# Altium footprint library Indicator.PcbLib: 51 footprints (part 2 of 4)
Each footprint in its own frame and in the unit in brackets; x right, y up, seen from the top. Pads: shape width x height; smd on the part's side, far side on the other; paste and mask are expansions set on the pad; w line width, h text height; cw(c..) or ccw(c..) is an arc to the next point about the centre after c.
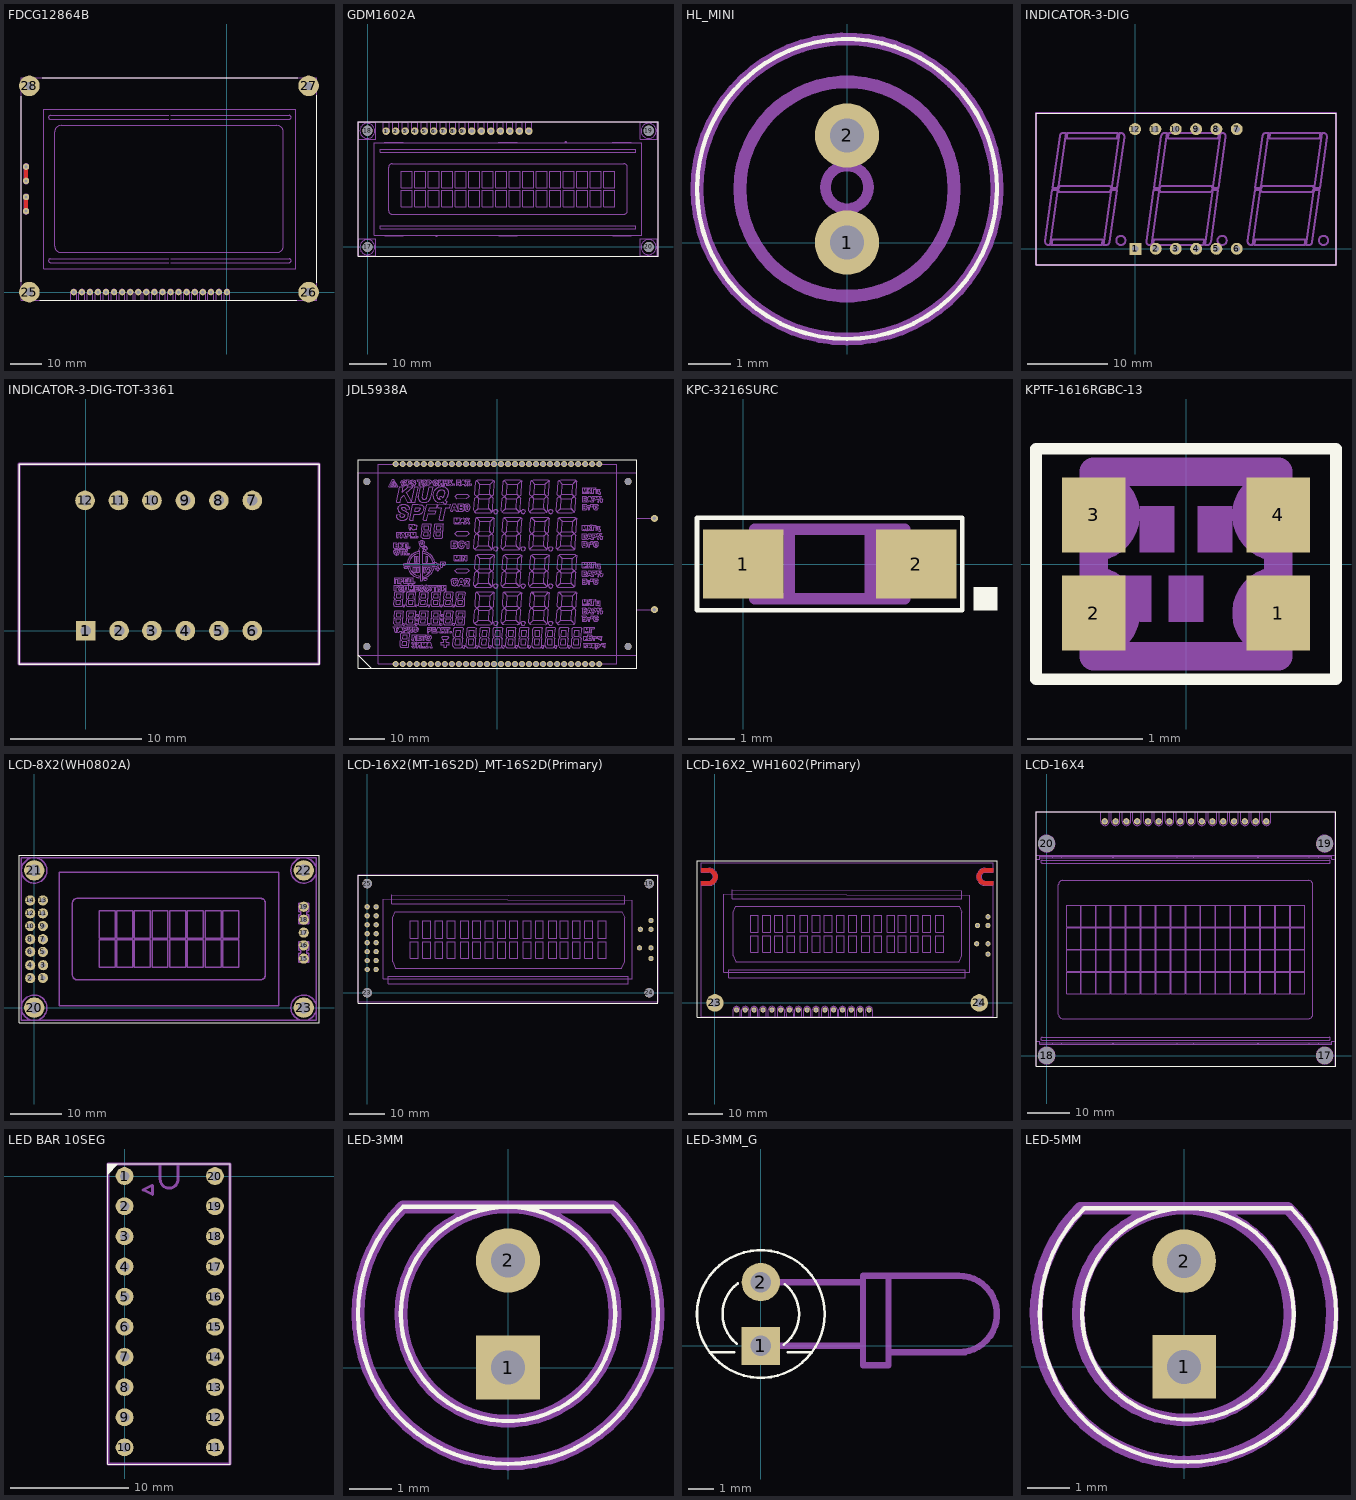
[diagram p1: the footprints below, top view; thin cyan lines are the x and y axes]

## FDCG12864B [mm]
pads (28):
  round 2 hole 1: 1(0,0) 2(-2.55,0) 3(-5.05,0) 4(-7.6,0) 5(-10.15,0) 6(-12.7,0) 7(-15.25,0) 8(-17.75,0) 9(-20.3,0) 10(-22.85,0) 11(-25.4,0) 12(-27.95,0) 13(-30.45,0) 14(-33,0) 15(-35.55,0) 16(-38.1,0) 17(-40.65,0) 18(-43.15,0) 19(-45.7,0) 20(-48.25,0) 21(-63.28,39.52) 22(-63.28,35.07) 23(-63.28,29.97) 24(-63.28,25.52)
  round 6.5 hole 2.5: 25(-62.25,0) 26(25.75,0) 27(25.75,65) 28(-62.25,65)
Top Layer:
  lines w1.25: -63.28,25.52 -63.28,30.02 ; -63.28,35.07 -63.28,39.52
Top Overlay:
  lines w0.1: -64.75,3.25 -64.75,61.75 ; -59,-2.5 22,-2.5 ; -58.25,67.5 22.25,67.5 ; 28.25,3 28.25,62
Mechanical 1:
  circle w0.25: c25.749,65.003 r2.5
  circle w0.25: c-62.251,65.003 r2.5
  circle w0.25: c25.749,0.003 r2.5
  circle w0.25: c-63.281,25.523 r0.5
  circle w0.25: c-62.251,0.003 r2.5
  circle w0.25: c-2.531,0.003 r0.5
  circle w0.25: c-10.151,0.003 r0.5
  circle w0.25: c-17.771,0.003 r0.5
  circle w0.25: c-25.391,0.003 r0.5
  circle w0.25: c-33.011,0.003 r0.5
  circle w0.25: c-40.631,0.003 r0.5
  circle w0.25: c-63.281,39.523 r0.5
  circle w0.25: c-63.281,35.063 r0.5
  circle w0.25: c-63.281,29.983 r0.5
  circle w0.25: c-48.251,0.003 r0.5
  circle w0.25: c0.009,0.003 r0.5
  circle w0.25: c-5.071,0.003 r0.5
  circle w0.25: c-7.611,0.003 r0.5
  circle w0.25: c-12.691,0.003 r0.5
  circle w0.25: c-15.231,0.003 r0.5
  circle w0.25: c-20.311,0.003 r0.5
  circle w0.25: c-22.851,0.003 r0.5
  circle w0.25: c-27.931,0.003 r0.5
  circle w0.25: c-30.471,0.003 r0.5
  circle w0.25: c-35.551,0.003 r0.5
  circle w0.25: c-38.091,0.003 r0.5
  circle w0.25: c-43.171,0.003 r0.5
  circle w0.25: c-45.711,0.003 r0.5
  lines w0.25: -63.797,29.223 cw(c-63.281,29.983) -62.766,29.222 -62.766,26.283 ; -63.797,38.763 cw(c-63.281,39.523) -62.766,38.762 -62.766,35.823 ; -63.796,29.222 -63.796,26.283 ccw(c-63.281,25.523) -62.765,26.282 ; -63.796,38.762 -63.796,35.823 ccw(c-63.281,35.063) -62.765,35.822 ; -49.151,-2.497 -49.151,0.003 cw(c-48.251,0.003) -47.351,0.003 -47.351,-2.497 ; -46.611,-2.497 -46.611,0.003 cw(c-45.711,0.003) -44.811,0.003 -44.811,-2.497 ; -44.071,-2.497 -44.071,0.003 cw(c-43.171,0.003) -42.271,0.003 -42.271,-2.497 ; -41.531,-2.497 -41.531,0.003 cw(c-40.631,0.003) -39.731,0.003 -39.731,-2.497 ; -38.991,-2.497 -38.991,0.003 cw(c-38.091,0.003) -37.191,0.003 -37.191,-2.497 ; -36.451,-2.497 -36.451,0.003 cw(c-35.551,0.003) -34.651,0.003 -34.651,-2.497 ; -33.911,-2.497 -33.911,0.003 cw(c-33.011,0.003) -32.111,0.003 -32.111,-2.497 ; -31.371,-2.497 -31.371,0.003 cw(c-30.471,0.003) -29.571,0.003 -29.571,-2.497 ; -28.831,-2.497 -28.831,0.003 cw(c-27.931,0.003) -27.031,0.003 -27.031,-2.497 ; -26.291,-2.497 -26.291,0.003 cw(c-25.391,0.003) -24.491,0.003 -24.491,-2.497 ; -23.751,-2.497 -23.751,0.003 cw(c-22.851,0.003) -21.951,0.003 -21.951,-2.497 ; -21.211,-2.497 -21.211,0.003 cw(c-20.311,0.003) -19.411,0.003 -19.411,-2.497 ; -18.671,-2.497 -18.671,0.003 cw(c-17.771,0.003) -16.871,0.003 -16.871,-2.497 ; -18.251,9.325 -55.628,9.325 cw(c-55.628,9.918) -55.628,10.511 -18.251,10.511 ; -18.251,54.495 -55.628,54.495 cw(c-55.628,55.088) -55.628,55.68 -18.251,55.68 ; -17.751,9.325 19.626,9.325 ccw(c19.626,9.918) 19.626,10.511 -17.751,10.511 ; -17.751,54.495 19.626,54.495 ccw(c19.626,55.088) 19.626,55.68 -17.751,55.68 ; -16.131,-2.497 -16.131,0.003 cw(c-15.231,0.003) -14.331,0.003 -14.331,-2.497 ; -13.591,-2.497 -13.591,0.003 cw(c-12.691,0.003) -11.791,0.003 -11.791,-2.497 ; -11.051,-2.497 -11.051,0.003 cw(c-10.151,0.003) -9.251,0.003 -9.251,-2.497 ; -8.511,-2.497 -8.511,0.003 cw(c-7.611,0.003) -6.711,0.003 -6.711,-2.497 ; -5.971,-2.497 -5.971,0.003 cw(c-5.071,0.003) -4.171,0.003 -4.171,-2.497 ; -3.431,-2.497 -3.431,0.003 cw(c-2.531,0.003) -1.631,0.003 -1.631,-2.497 ; -0.891,-2.497 -0.891,0.003 cw(c0.009,0.003) 0.909,0.003 0.909,-2.497 ; -64.751,-2.497 28.249,-2.497 28.249,67.503 -64.751,67.503 -64.751,-2.497 ; -57.751,7.403 21.749,7.403 21.749,32.503 21.749,57.603 -57.751,57.603 -57.751,32.503 -57.751,7.403 ; -54.251,14.503 ccw(c-52.251,14.503) -52.251,12.503 -18.251,12.503 15.749,12.503 ccw(c15.749,14.503) 17.749,14.503 17.749,32.503 17.749,50.503 ccw(c15.749,50.503) 15.749,52.503 -18.251,52.503 -52.251,52.503 ccw(c-52.251,50.503) -54.251,50.503 -54.251,32.503 -54.251,14.503

## GDM1602A [mm]
pads (20):
  round 2 hole 1.1: 1(4.95,30.9) 2(7.5,30.9) 3(10.05,30.9) 4(12.6,30.9) 5(15.15,30.9) 6(17.65,30.9) 7(20.2,30.9) 8(22.75,30.9) 9(25.3,30.9) 10(27.8,30.9) 11(30.35,30.9) 12(32.9,30.9) 13(35.45,30.9) 14(37.95,30.9) 15(40.5,30.9) 16(43,30.9)
  round 2.7 hole 2.7 unplated: 17(0,0) 18(0,31) 19(75,31) 20(75,0)
Top Overlay:
  lines w0.1: -2.54,-2.54 77.46,-2.54 77.46,33.46 -2.54,33.46 -2.54,-2.54
Mechanical 1:
  drawing of 276 lines, arcs and shapes, not listed

## HL_MINI [mm]
pads (2):
  round 1.5 hole 0.8: 1(0,0) 2(0,2.5)
Top Overlay:
  lines w0.1: 2.453,3.746 ccw(c0,1.25) -3.5,1.25 ccw(c0,1.25) 3.5,1.25 ccw(c0,1.25) 2.475,3.725
Mechanical 1:
  lines w0.25: -0.5,1.29 cw(c0,1.29) 0.5,1.29 cw(c0,1.29) -0.5,1.29
  lines w0.3: 2.453,3.746 ccw(c0,1.25) -3.5,1.25 ccw(c0,1.25) 3.5,1.25 ccw(c0,1.25) 2.475,3.725 ; -2.5,1.25 cw(c0,1.25) 2.5,1.25 cw(c0,1.25) -2.5,1.25

## INDICATOR-3-DIG [mm]
pads (12):
  rect 1.5x1.5 hole 0.8: 1(0,0)
  round 1.5 hole 0.8: 2(2.55,0) 3(5.05,0) 4(7.6,0) 5(10.15,0) 6(12.7,0) 7(12.7,15) 8(10.15,15) 9(7.6,15) 10(5.05,15) 11(2.5,15) 12(-0.05,15)
Top Overlay:
  lines w0.1: -12.462,-2.008 25.138,-2.008 25.138,16.992 -12.462,16.992 -12.462,-2.008
Mechanical 1:
  circle w0.25: c23.574,1.051 r0.579
  circle w0.25: c10.874,1.051 r0.579
  circle w0.25: c-1.826,1.051 r0.579
  lines w0.25: -12.462,-2.008 25.138,-2.008 25.138,16.992 -12.462,16.992 -12.462,-2.008 ; -11.328,0.974 ccw(c-10.882,0.911) -10.882,0.461 -10.7,0.461 -9.761,7.142 -9.861,7.376 -10.428,7.376 -11.328,0.974 ; -10.5,0.461 -4.2,0.461 -4.101,1.161 -10.401,1.161 -10.5,0.461 ; -10.395,7.609 -9.478,14.136 cw(c-9.032,14.073) -9.032,14.523 -8.724,14.523 -9.662,7.842 -9.829,7.609 -10.395,7.609 ; -9.712,7.492 -9.462,7.842 -3.162,7.842 -3.012,7.492 -3.261,7.142 -9.561,7.142 -9.712,7.492 ; -8.622,13.823 -2.322,13.823 -2.224,14.523 -8.524,14.523 -8.622,13.823 ; -4,0.461 -3.061,7.142 -2.895,7.376 -2.328,7.376 -3.245,0.849 cw(c-3.691,0.911) -3.691,0.461 -4,0.461 ; -2.962,7.842 -2.024,14.523 -1.841,14.523 cw(c-1.841,14.073) -1.396,14.011 -2.295,7.609 -2.862,7.609 -2.962,7.842 ; 1.372,0.974 ccw(c1.818,0.911) 1.818,0.461 2,0.461 2.939,7.142 2.839,7.376 2.272,7.376 1.372,0.974 ; 2.2,0.461 8.5,0.461 8.599,1.161 2.299,1.161 2.2,0.461 ; 2.305,7.609 3.222,14.136 cw(c3.668,14.073) 3.668,14.523 3.976,14.523 3.038,7.842 2.871,7.609 2.305,7.609 ; 2.988,7.492 3.238,7.842 9.538,7.842 9.688,7.492 9.439,7.142 3.139,7.142 2.988,7.492 ; 4.078,13.823 10.378,13.823 10.476,14.523 4.176,14.523 4.078,13.823 ; 8.7,0.461 9.639,7.142 9.805,7.376 10.372,7.376 9.455,0.849 cw(c9.009,0.911) 9.009,0.461 8.7,0.461 ; 9.738,7.842 10.676,14.523 10.859,14.523 cw(c10.859,14.073) 11.304,14.011 10.405,7.609 9.838,7.609 9.738,7.842 ; 14.072,0.974 ccw(c14.518,0.911) 14.518,0.461 14.7,0.461 15.639,7.142 15.539,7.376 14.972,7.376 14.072,0.974 ; 14.9,0.461 21.2,0.461 21.299,1.161 14.999,1.161 14.9,0.461 ; 15.005,7.609 15.922,14.136 cw(c16.368,14.073) 16.368,14.523 16.676,14.523 15.738,7.842 15.571,7.609 15.005,7.609 ; 15.688,7.492 15.938,7.842 22.238,7.842 22.388,7.492 22.139,7.142 15.839,7.142 15.688,7.492 ; 16.778,13.823 23.078,13.823 23.176,14.523 16.876,14.523 16.778,13.823 ; 21.4,0.461 22.339,7.142 22.505,7.376 23.072,7.376 22.155,0.849 cw(c21.709,0.911) 21.709,0.461 21.4,0.461 ; 22.438,7.842 23.376,14.523 23.559,14.523 cw(c23.559,14.073) 24.004,14.011 23.105,7.609 22.538,7.609 22.438,7.842

## INDICATOR-3-DIG-TOT-3361 [mm]
pads (12):
  rect 1.5x1.5 hole 0.8: 1(0,0)
  round 1.5 hole 0.8: 2(2.55,0) 3(5.05,0) 4(7.6,0) 5(10.15,0) 6(12.7,0) 7(12.7,9.92) 8(10.15,9.92) 9(7.6,9.92) 10(5.05,9.92) 11(2.5,9.92) 12(-0.05,9.92)
Top Overlay:
  lines w0.1: -5.08,-2.54 17.78,-2.54 17.78,12.7 -5.08,12.7 -5.08,-2.54
Mechanical 1:
  lines w0.25: -5.08,-2.54 17.78,-2.54 17.78,12.7 -5.08,12.7 -5.08,-2.54

## JDL5938A [mm]
pads (66):
  round 1.75 hole 1.1: 1(-29,-28.5) 2(-27,-28.5) 3(-25,-28.5) 4(-23,-28.5) 5(-21,-28.5) 6(-19,-28.5) 7(-17,-28.5) 8(-15,-28.5) 9(-13,-28.5) 10(-11,-28.5) 11(-9,-28.5) 12(-7,-28.5) 13(-5,-28.5) 14(-3,-28.5) 15(-1,-28.5) 16(1,-28.5) 17(3,-28.5) 18(5,-28.5) 19(7,-28.5) 20(9,-28.5) 21(11,-28.5) 22(13,-28.5) 23(15,-28.5) 24(17,-28.5) 25(19,-28.5) 26(21,-28.5) 27(23,-28.5) 28(25,-28.5) 29(27,-28.5) 30(29,-28.5) 31(29,28.5) 32(27,28.5) 33(25,28.5) 34(23,28.5) 35(21,28.5) 36(19,28.5) 37(17,28.5) 38(15,28.5) 39(13,28.5) 40(11,28.5) 41(9,28.5) 42(7,28.5) 43(5,28.5) 44(3,28.5) 45(1,28.5) 46(-1,28.5) 47(-3,28.5) 48(-5,28.5) 49(-7,28.5) 50(-9,28.5) 51(-11,28.5) 52(-13,28.5) 53(-15,28.5) 54(-17,28.5) 55(-19,28.5) 56(-21,28.5) 57(-23,28.5) 58(-25,28.5) 59(-27,28.5) 60(-29,28.5)
  round 2 hole 1: 61(44.75,-13) 62(44.75,13)
  round 2 hole 2 unplated: 63(-37.25,-23.5) 64(37.25,-23.5) 65(37.25,23.5) 66(-37.25,23.5)
Top Overlay:
  lines w0.1: -39.75,-26 -36,-29.75 ; -39.75,-29.75 39.75,-29.75 39.75,29.75 -39.75,29.75 -39.75,-29.75
Mechanical 1:
  drawing of 24918 lines, arcs and shapes, not listed
  text "A" at 44.5,14.75 h0.94
  text "K" at 44.25,-11.5 h0.94

## KPC-3216SURC [mm]
pads (2):
  rect 1.75x1.5 smd: 1(0,0) 2(3.75,0)
Top Overlay:
  region: 5,-1 5.5,-1 5.5,-0.5 5,-0.5
  lines w0.1: -1,-1 4.75,-1 4.75,1 -1,1 -1,-1
Mechanical 1:
  lines w0.25: 1,-0.75 1,0.75 ; 2.75,-0.75 2.75,0.75 ; 3,-0.75 3,0.75 ; 0.25,-0.75 3.5,-0.75 3.5,0.75 0.25,0.75 0.25,-0.75

## KPTF-1616RGBC-13 [mm]
pads (4):
  rect 0.55x0.65 smd: 1(0.8,-0.425) 2(-0.8,-0.425) 3(-0.8,0.425) 4(0.8,0.425)
Top Overlay:
  lines w0.1: -1.3,-1 1.3,-1 1.3,1 -1.3,1 -1.3,-1
Mechanical 1:
  region: -0.15,-0.1 -0.15,-0.5 0.15,-0.5 0.15,-0.1
  region: 0.1,0.5 0.1,0.1 0.4,0.1 0.4,0.5
  region: -0.4,0.5 -0.4,0.1 -0.1,0.1 -0.1,0.5
  region: -0.6,-0.3 -0.4,-0.5 -0.3,-0.5 -0.3,-0.1 -0.6,-0.1
  lines w0.25: -0.8,-0.7 ccw(c-0.8,-0.425) -0.8,-0.15 ; -0.8,0.15 ccw(c-0.8,0.425) -0.8,0.7 ; 0.8,-0.7 cw(c0.8,-0.425) 0.8,-0.15 ; 0.8,0.15 cw(c0.8,0.425) 0.8,0.7 ; -0.8,-0.8 0.8,-0.8 0.8,-0.55 cw(c0.8,-0.425) 0.8,-0.3 0.8,0.3 cw(c0.8,0.425) 0.8,0.55 0.8,0.8 -0.8,0.8 -0.8,0.55 cw(c-0.8,0.425) -0.8,0.3 -0.8,-0.3 cw(c-0.8,-0.425) -0.8,-0.55 -0.8,-0.8

## LCD-8X2(WH0802A) [mm]
pads (23):
  round 2 hole 1: 1(1.7,5.85) 2(-0.8,5.8) 3(1.75,8.35) 4(-0.8,8.35) 5(1.7,10.95) 6(-0.8,11) 7(1.7,13.45) 8(-0.8,13.45) 9(1.7,16.05) 10(-0.8,16.05) 11(1.7,18.55) 12(-0.8,18.55) 13(1.7,21.1) 14(-0.8,21.1) 15(53,9.65) 16(53,12.25) 17(53,14.75) 18(53,17.3) 19(53,19.85)
  round 4 hole 2.3: 20(0,0) 21(0,27) 22(53,27) 23(53,0)
Top Overlay:
  lines w0.1: -3,-3 56,-3 56,30 -3,30 -3,-3
Mechanical 1:
  circle w0.25: c-0.022,26.982 r2.5
  circle w0.25: c-0.022,-0.018 r2.5
  circle w0.25: c52.978,26.982 r2.5
  circle w0.25: c52.978,19.832 r0.5
  circle w0.25: c52.978,12.212 r0.5
  circle w0.25: c52.978,-0.018 r2.5
  circle w0.25: c52.978,26.982 r0.8
  circle w0.25: c52.978,17.292 r0.5
  circle w0.25: c52.978,14.752 r0.5
  circle w0.25: c52.978,9.672 r0.5
  circle w0.25: c52.978,-0.018 r0.8
  circle w0.25: c-0.022,26.982 r0.8
  circle w0.25: c-0.822,21.102 r0.5
  circle w0.25: c1.718,21.102 r0.5
  circle w0.25: c-0.822,18.562 r0.5
  circle w0.25: c1.718,18.562 r0.5
  circle w0.25: c1.718,16.022 r0.5
  circle w0.25: c-0.822,16.022 r0.5
  circle w0.25: c1.718,13.482 r0.5
  circle w0.25: c-0.822,13.482 r0.5
  circle w0.25: c-0.822,10.942 r0.5
  circle w0.25: c1.718,10.942 r0.5
  circle w0.25: c1.718,8.402 r0.5
  circle w0.25: c-0.822,8.402 r0.5
  circle w0.25: c1.718,5.862 r0.5
  circle w0.25: c-0.822,5.862 r0.5
  circle w0.25: c-0.022,-0.018 r0.8
  lines w0.25: -2.522,-2.518 55.478,-2.518 55.478,29.482 -2.522,29.482 -2.522,-2.518 ; 4.878,0.382 48.078,0.382 48.078,26.582 4.878,26.582 4.878,0.382 ; 7.478,6.482 ccw(c8.478,6.482) 8.478,5.482 44.478,5.482 ccw(c44.478,6.482) 45.478,6.482 45.478,20.482 ccw(c44.478,20.482) 44.478,21.482 8.478,21.482 ccw(c8.478,20.482) 7.478,20.482 7.478,6.482 ; 12.755,7.938 12.755,13.324 15.893,13.324 15.893,7.938 12.755,7.938 ; 12.755,13.641 12.755,19.027 15.893,19.027 15.893,13.641 12.755,13.641 ; 16.213,7.938 19.351,7.938 19.351,13.324 16.213,13.324 16.213,7.938 ; 16.213,13.641 19.351,13.641 19.351,19.027 16.213,19.027 16.213,13.641 ; 19.705,7.938 19.705,13.324 22.843,13.324 22.843,7.938 19.705,7.938 ; 19.705,13.641 19.705,19.027 22.843,19.027 22.843,13.641 19.705,13.641 ; 23.163,7.938 26.301,7.938 26.301,13.324 23.163,13.324 23.163,7.938 ; 23.163,13.641 26.301,13.641 26.301,19.027 23.163,19.027 23.163,13.641 ; 26.655,7.938 26.655,13.324 29.793,13.324 29.793,7.938 26.655,7.938 ; 26.655,13.641 26.655,19.027 29.793,19.027 29.793,13.641 26.655,13.641 ; 30.113,7.938 33.251,7.938 33.251,13.324 30.113,13.324 30.113,7.938 ; 30.113,13.641 33.251,13.641 33.251,19.027 30.113,19.027 30.113,13.641 ; 33.605,7.938 33.605,13.324 36.743,13.324 36.743,7.938 33.605,7.938 ; 33.605,13.641 33.605,19.027 36.743,19.027 36.743,13.641 33.605,13.641 ; 37.063,7.938 37.063,13.324 40.201,13.324 40.201,7.938 37.063,7.938 ; 37.063,13.641 37.063,19.027 40.201,19.027 40.201,13.641 37.063,13.641 ; 52.031,8.968 52.031,10.674 52.362,10.674 52.362,11.263 52.031,11.263 52.031,12.969 53.947,12.969 53.947,11.263 53.594,11.263 53.594,10.674 53.947,10.674 53.947,8.968 52.031,8.968 ; 52.031,16.536 52.031,18.241 52.362,18.241 52.362,18.83 52.031,18.83 52.031,20.536 53.947,20.536 53.947,18.83 53.594,18.83 53.594,18.241 53.947,18.241 53.947,16.536 52.031,16.536
  text "1" at 1.5,2.25 h1.63
  text "K" at 49,9.75 h1.63
  text "2" at -2.25,2.25 h1.63
  text "A" at 49.25,17 h1.63

## LCD-16X2(MT-16S2D)_MT-16S2D(Primary) [mm]
pads (26):
  round 1.5 hole 0.8: 1(2.54,6.61) 2(0,6.61) 3(2.54,9.15) 4(0,9.15) 5(2.54,11.69) 6(0,11.69) 7(2.54,14.23) 8(0,14.23) 9(2.54,16.77) 10(0,16.77) 11(2.54,19.31) 12(0,19.31) 13(2.54,21.85) 14(0,21.85) 15(2.54,24.39) 16(0,24.39) A1(77.5,18) A2(80.5,18) A3(80.5,20.5) K1(77.25,12.75) K2(80.5,12.75) K3(80.5,9.75)
  round 2.7 hole 2.7 unplated: 19(80,31) 23(0,0) 24(80,0) 25(0,31)
Top Overlay:
  lines w0.1: -2.61,-2.97 82.39,-2.97 82.39,33.28 -2.61,33.28 -2.61,-2.97
Mechanical 1:
  drawing of 152 lines, arcs and shapes, not listed

## LCD-16X2_WH1602(Primary) [mm]
pads (24):
  round 1.5 hole 0.8: 1(39.22,-2.02) 2(36.67,-2.02) 3(34.12,-2.02) 4(31.62,-2.02) 5(29.07,-2.02) 6(26.52,-2.02) 7(23.97,-2.02) 8(21.42,-2.02) 9(18.92,-2.02) 10(16.37,-2.02) 11(13.82,-2.02) 12(11.27,-2.02) 13(8.72,-2.02) 14(6.22,-2.02) 15(44.32,-2.02) 16(41.77,-2.02) A1(75.5,22.25) A2(78.5,22.25) A3(78.5,24.75) K1(75.25,17) K2(78.5,17) K3(78.5,14)
  round 5 hole 2.5: 23(0,0) 24(76,0)
Top Layer:
  region: 80,33.75 80,35 77.5,35 76.75,35.5 76.5,36 76.5,36.25 76.5,36.75 77,37.25 77.25,37.5 77.75,37.5 80,37.5 80,38.75 77.5,38.75 76.75,38.5 76,38 75.5,37.25 75.25,36.5 75.25,36 75.5,35.25 76,34.5 76.25,34.25 77.25,33.75
  region: -1.25,33.75 -0.25,34.25 0,34.5 0.5,35.25 0.75,36 0.75,36.5 0.5,37.25 0,38 -0.75,38.5 -1.5,38.75 -4,38.75 -4,37.5 -1.75,37.5 -1.25,37.5 -1,37.25 -0.5,36.75 -0.5,36.25 -0.5,36 -0.75,35.5 -1.5,35 -4,35 -4,33.75
Top Overlay:
  lines w0.1: -5.15,-4.14 81.1,-4.14 81.1,40.86 -5.15,40.86 -5.15,-4.14
Top Solder:
  region: 80,33.75 80,35 77.5,35 76.75,35.5 76.5,36 76.5,36.25 76.5,36.75 77,37.25 77.25,37.5 77.75,37.5 80,37.5 80,38.75 77.5,38.75 76.75,38.5 76,38 75.5,37.25 75.25,36.5 75.25,36 75.5,35.25 76,34.5 76.25,34.25 77.25,33.75
  region: -1.25,33.75 -0.25,34.25 0,34.5 0.5,35.25 0.75,36 0.75,36.5 0.5,37.25 0,38 -0.75,38.5 -1.5,38.75 -4,38.75 -4,37.5 -1.75,37.5 -1.25,37.5 -1,37.25 -0.5,36.75 -0.5,36.25 -0.5,36 -0.75,35.5 -1.5,35 -4,35 -4,33.75
Mechanical 1:
  drawing of 232 lines, arcs and shapes, not listed

## LCD-16X4 [mm]
pads (20):
  round 1.5 hole 0.8: 1(51.8,55.25) 2(49.3,55.25) 3(46.75,55.25) 4(44.2,55.25) 5(41.65,55.25) 6(39.1,55.25) 7(36.6,55.25) 8(34.05,55.25) 9(31.5,55.25) 10(28.95,55.25) 11(26.4,55.25) 12(23.9,55.25) 13(21.35,55.25) 14(18.8,55.25) 15(16.25,55.25) 16(13.7,55.25)
  round 4 hole 4 unplated: 17(65.6,0) 18(0,0) 19(65.6,50) 20(0,50)
Top Overlay:
  lines w0.1: -2.5,-2.5 68.25,-2.5 68.25,57.5 -2.5,57.5 -2.5,-2.5
Mechanical 1:
  drawing of 384 lines, arcs and shapes, not listed

## LED BAR 10SEG [mm]
pads (20):
  round 1.5 hole 0.8: 1(0,0) 2(0,-2.54) 3(0,-5.08) 4(0,-7.62) 5(0,-10.16) 6(0,-12.7) 7(0,-15.24) 8(0,-17.78) 9(0,-20.32) 10(0,-22.86) 11(7.62,-22.86) 12(7.62,-20.32) 13(7.62,-17.78) 14(7.62,-15.24) 15(7.62,-12.7) 16(7.62,-10.16) 17(7.62,-7.62) 18(7.62,-5.08) 19(7.62,-2.54) 20(7.62,0)
Top Overlay:
  region: -1.397,0.127 -0.508,1.016 -1.397,1.016
  lines w0.1: -1.397,-24.257 8.89,-24.257 8.89,1.016 -1.397,1.016 -1.397,-24.257
Mechanical 1:
  lines w0.25: 3.004,0.984 3.004,-0.266 ccw(c3.754,-0.266) 4.504,-0.266 4.504,0.984 ; -1.397,-24.257 8.89,-24.257 8.89,1.016 -1.397,1.016 -1.397,-24.257 ; 1.576,-1.161 2.352,-1.541 2.352,-0.781 1.576,-1.161

## LED-3MM [mm]
pads (2):
  rect 1.5x1.5 hole 0.8: 1(0,0)
  round 1.5 hole 0.8: 2(0,2.5)
Top Overlay:
  lines w0.1: -2.475,3.725 ccw(c0,1.25) -3.5,1.25 ccw(c0,1.25) 3.5,1.25 ccw(c0,1.25) 2.475,3.725 ; -2.45,3.75 2.45,3.75 ; -2.5,1.25 cw(c0,1.25) 2.5,1.25 cw(c0,1.25) -2.5,1.25
Mechanical 1:
  lines w0.3: -2.475,3.725 ccw(c0,1.25) -3.5,1.25 ccw(c0,1.25) 3.5,1.25 ccw(c0,1.25) 2.475,3.725 ; -2.45,3.75 2.45,3.75 ; -2.5,1.25 cw(c0,1.25) 2.5,1.25 cw(c0,1.25) -2.5,1.25
  text "A" at 1,-0.4 h0.63

## LED-3MM_G [mm]
pads (2):
  rect 1.5x1.5 hole 0.8: 1(0,0)
  round 1.5 hole 0.8: 2(0,2.5)
Top Overlay:
  lines w0.1: -2,-0.25 -1.05,-0.25 ; -0.938,0.079 cw(c0,1.25) -1.5,1.25 cw(c0,1.25) -0.901,2.45 ; 0.901,0.05 ccw(c0,1.25) 1.5,1.25 ccw(c0,1.25) 0.938,2.421 ; 1.05,-0.25 2,-0.25 ; -2.5,1.25 cw(c0,1.25) 2.5,1.25 cw(c0,1.25) -2.5,1.25
Mechanical 1:
  lines w0.25: 0,0 4,0 ; 0,2.5 4,2.5 ; 5,-0.25 8,-0.25 ; 7.75,-0.25 ccw(c7.75,1.25) 7.75,2.75 5,2.75 ; 5,2.75 5,-0.75 4,-0.75 4,2.75 5,2.75
  text "A" at 1.75,0.25 h0.63

## LED-5MM [mm]
pads (2):
  rect 1.5x1.5 hole 0.8: 1(0,0)
  round 1.5 hole 0.8: 2(0,2.5)
Top Overlay:
  lines w0.1: -2.385,3.725 ccw(c0.09,1.25) -3.41,1.25 ccw(c0.09,1.25) 3.59,1.25 ccw(c0.09,1.25) 2.565,3.725 ; -2.36,3.75 2.54,3.75 ; -2.41,1.25 cw(c0.09,1.25) 2.59,1.25 cw(c0.09,1.25) -2.41,1.25
Mechanical 1:
  lines w0.3: -2.475,3.725 ccw(c0,1.25) -3.5,1.25 ccw(c0,1.25) 3.5,1.25 ccw(c0,1.25) 2.475,3.725 ; -2.45,3.75 2.45,3.75 ; -2.5,1.25 cw(c0,1.25) 2.5,1.25 cw(c0,1.25) -2.5,1.25
  text "A" at 1,-0.4 h0.63